# Altium schematic symbol library SCH - DRIVER - LED - TI LM2704MF-ADJ.SchLib: 1 symbol
Pins are listed as number, name and electrical type; pins without a type are passive.

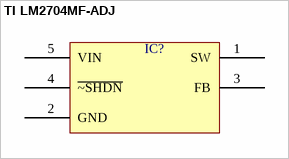
[diagram p0: symbol TI LM2704MF-ADJ]

## TI LM2704MF-ADJ
designator IC?  (value not drawn)
pins: 1 SW, 2 GND, 3 FB, 4 ~{~SHDN}, 5 VIN